# Altium schematic symbol library Schlib_Alliance_Memory.SchLib: 2 symbols
Pins are listed as number, name and electrical type; pins without a type are passive.

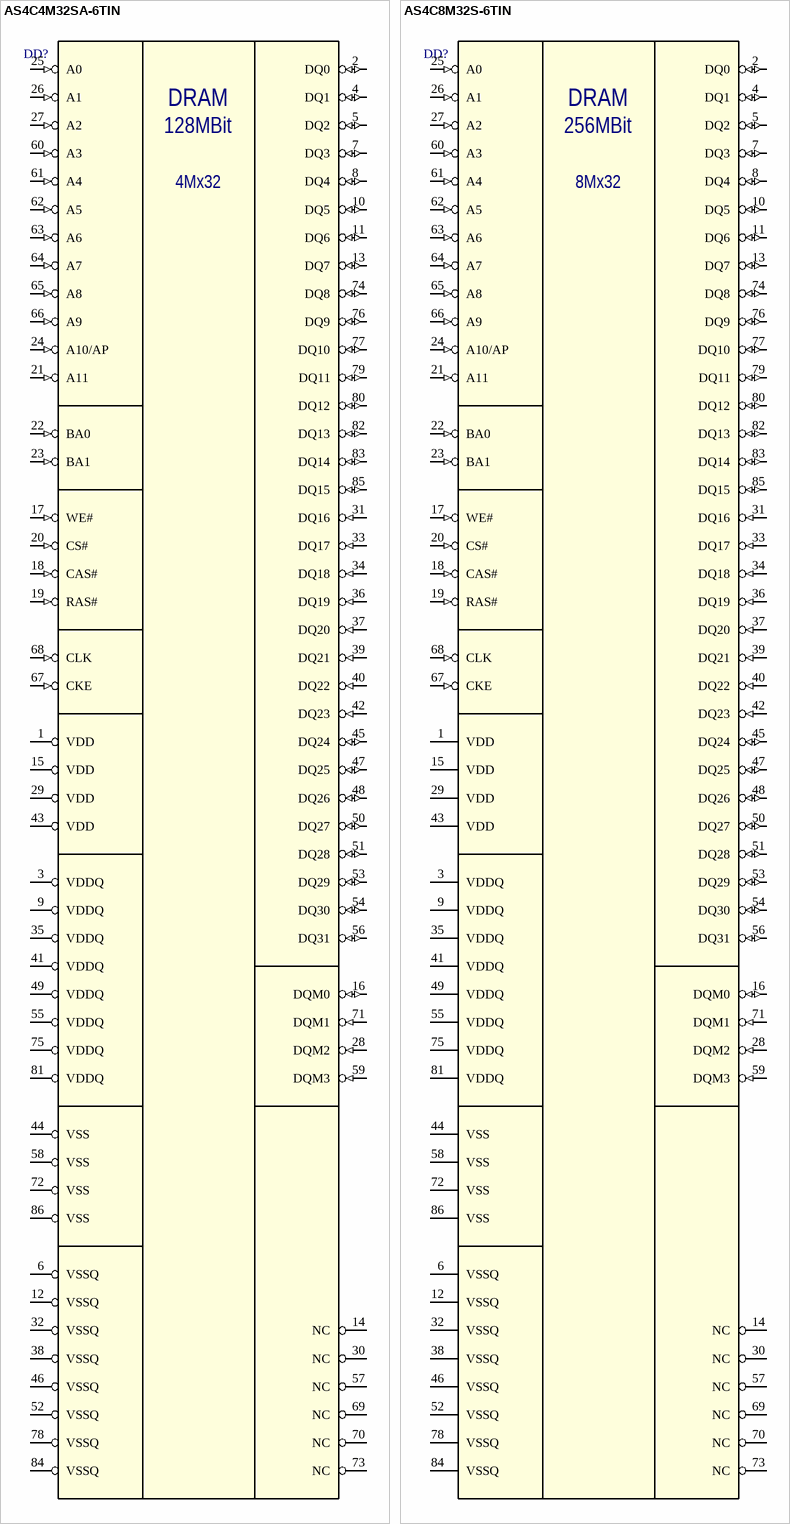
[diagram p0: symbols AS4C4M32SA-6TIN to AS4C8M32S-6TIN]

## AS4C4M32SA-6TIN
designator DD?  (value not drawn)
High-speed synchronous DRAM 128Mb (4Mx32); Manufacturer: Alliance Memory, Inc.; Access Time: 5.4ns; Clock Frequency: 166 MHz; Package: TSOP-86 II; Part Number: AS4C4M32SA-6TIN
footprint TSOP-86 II (TSOP, 86-Leads, Body 22,22x10,16mm, Pitch 0,50mm, IPC Medium Density)
pins: 1 VDD (power), 2 DQ0 (io), 3 VDDQ (power), 4 DQ1 (io), 5 DQ2 (io), 6 VSSQ (power), 7 DQ3 (io), 8 DQ4 (io), 9 VDDQ (power), 10 DQ5 (io), 11 DQ6 (io), 12 VSSQ (power), 13 DQ7 (io), 14 NC (hiz), 15 VDD (power), 16 DQM0 (io), 17 WE# (in), 18 CAS# (in), 19 RAS# (in), 20 CS# (in), 21 A11 (in), 22 BA0 (in), 23 BA1 (in), 24 A10/AP (in), 25 A0 (in), 26 A1 (in), 27 A2 (in), 28 DQM2 (in), 29 VDD (power), 30 NC (hiz), 31 DQ16 (in), 32 VSSQ (power), 33 DQ17 (in), 34 DQ18 (in), 35 VDDQ (power), 36 DQ19 (in), 37 DQ20 (in), 38 VSSQ (power), 39 DQ21 (in), 40 DQ22 (in), 41 VDDQ (power), 42 DQ23 (in), 43 VDD (power), 44 VSS (power), 45 DQ24 (io), 46 VSSQ (power), 47 DQ25 (io), 48 DQ26 (io), 49 VDDQ (power), 50 DQ27 (io), 51 DQ28 (io), 52 VSSQ (power), 53 DQ29 (io), 54 DQ30 (io), 55 VDDQ (power), 56 DQ31 (io), 57 NC (hiz), 58 VSS (power), 59 DQM3 (in), 60 A3 (in), 61 A4 (in), 62 A5 (in), 63 A6 (in), 64 A7 (in), 65 A8 (in), 66 A9 (in), 67 CKE (in), 68 CLK (in), 69 NC (hiz), 70 NC (hiz), 71 DQM1 (in), 72 VSS (power), 73 NC (hiz), 74 DQ8 (io), 75 VDDQ (power), 76 DQ9 (io), 77 DQ10 (io), 78 VSSQ (power), 79 DQ11 (io), 80 DQ12 (io), 81 VDDQ (power), 82 DQ13 (io), 83 DQ14 (io), 84 VSSQ (power), 85 DQ15 (io), 86 VSS (power)
text: DRAM; 128MBit; 4Mx32

## AS4C8M32S-6TIN
designator DD?  (value not drawn)
High-speed synchronous DRAM 256Mb (8Mx32); Manufacturer: Alliance Memory, Inc.; Access Time: 5.5ns; Clock Frequency: 166 MHz; Package: TSOP-86 II; Part Number: AS4C8M32S-6TIN
footprint TSOP-86 II (TSOP, 86-Leads, Body 22,22x10,16mm, Pitch 0,50mm, IPC Medium Density)
pins: 1 VDD (power), 2 DQ0 (io), 3 VDDQ (power), 4 DQ1 (io), 5 DQ2 (io), 6 VSSQ (power), 7 DQ3 (io), 8 DQ4 (io), 9 VDDQ (power), 10 DQ5 (io), 11 DQ6 (io), 12 VSSQ (power), 13 DQ7 (io), 14 NC (hiz), 15 VDD (power), 16 DQM0 (io), 17 WE# (in), 18 CAS# (in), 19 RAS# (in), 20 CS# (in), 21 A11 (in), 22 BA0 (in), 23 BA1 (in), 24 A10/AP (in), 25 A0 (in), 26 A1 (in), 27 A2 (in), 28 DQM2 (in), 29 VDD (power), 30 NC (hiz), 31 DQ16 (in), 32 VSSQ (power), 33 DQ17 (in), 34 DQ18 (in), 35 VDDQ (power), 36 DQ19 (in), 37 DQ20 (in), 38 VSSQ (power), 39 DQ21 (in), 40 DQ22 (in), 41 VDDQ (power), 42 DQ23 (in), 43 VDD (power), 44 VSS (power), 45 DQ24 (io), 46 VSSQ (power), 47 DQ25 (io), 48 DQ26 (io), 49 VDDQ (power), 50 DQ27 (io), 51 DQ28 (io), 52 VSSQ (power), 53 DQ29 (io), 54 DQ30 (io), 55 VDDQ (power), 56 DQ31 (io), 57 NC (hiz), 58 VSS (power), 59 DQM3 (in), 60 A3 (in), 61 A4 (in), 62 A5 (in), 63 A6 (in), 64 A7 (in), 65 A8 (in), 66 A9 (in), 67 CKE (in), 68 CLK (in), 69 NC (hiz), 70 NC (hiz), 71 DQM1 (in), 72 VSS (power), 73 NC (hiz), 74 DQ8 (io), 75 VDDQ (power), 76 DQ9 (io), 77 DQ10 (io), 78 VSSQ (power), 79 DQ11 (io), 80 DQ12 (io), 81 VDDQ (power), 82 DQ13 (io), 83 DQ14 (io), 84 VSSQ (power), 85 DQ15 (io), 86 VSS (power)
text: DRAM; 256MBit; 8Mx32